# Altium footprint library motionDetectorPCBLib.PcbLib: 7 footprints
Each footprint in its own frame and in the unit in brackets; x right, y up, seen from the top. Pads: shape width x height; smd on the part's side, far side on the other; paste and mask are expansions set on the pad; w line width, h text height; cw(c..) or ccw(c..) is an arc to the next point about the centre after c.
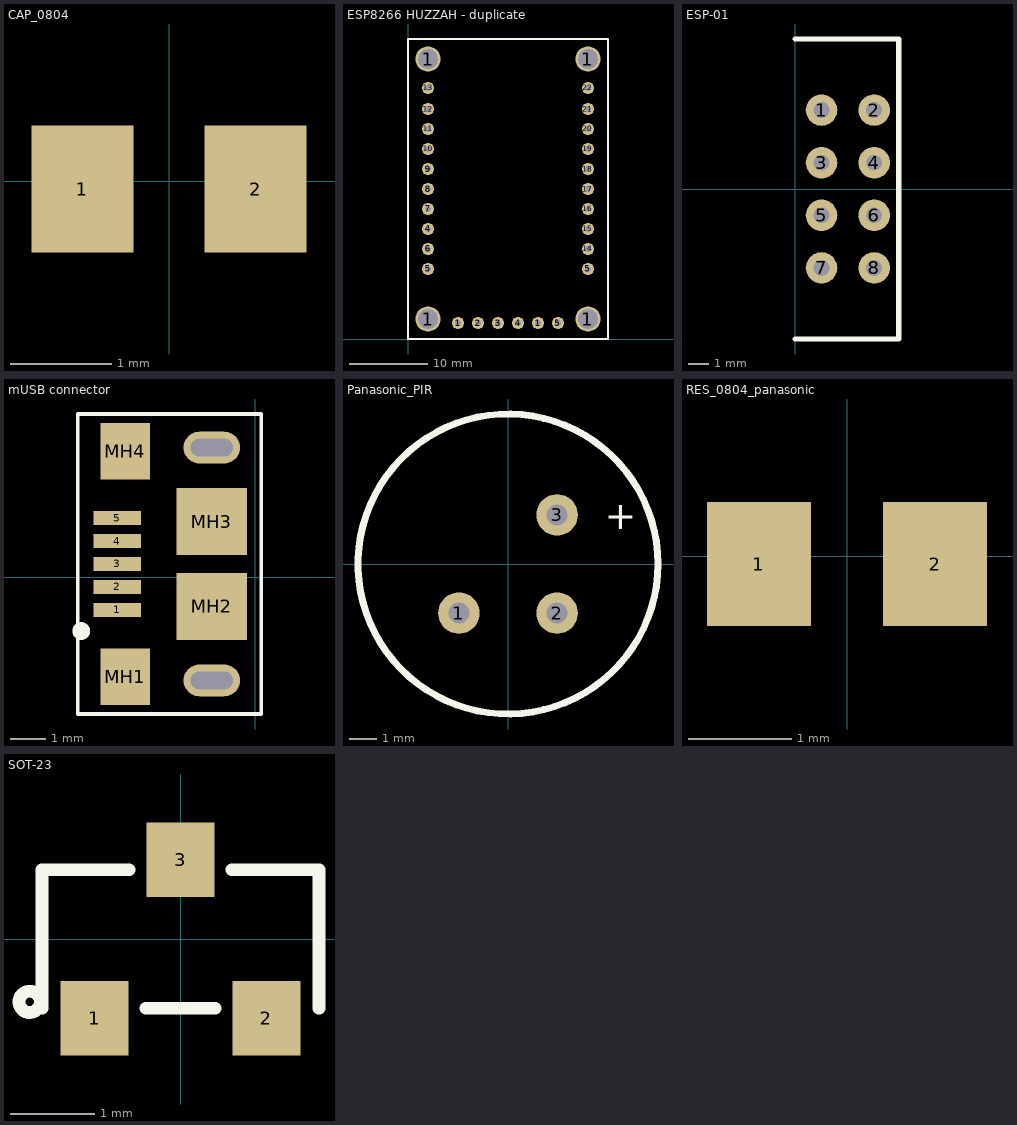
[diagram p0: the footprints below, top view; thin cyan lines are the x and y axes]

## CAP_0804 [mm]
height 1.25
pads (2):
  rect 1.006x1.25 smd: 1(-0.853,-0.075) 2(0.853,-0.075)

## ESP8266 HUZZAH - duplicate [mil]
pads (30):
  round 125.98 hole 98.43: 1(100,100) 1(100,1400) 1(900,100) 1(900,1400)
  round 60 hole 30: 1(250,80) 1(650,80) 2(350,80) 3(450,80) 4(100,550) 4(550,80) 5(100,350) 5(750,80) 5(900,350) 6(100,450) 7(100,650) 8(100,750) 9(100,850) 10(100,950) 11(100,1050) 12(100,1150) 13(100,1255) 14(900,450) 15(900,550) 16(900,650) 17(900,750) 18(900,850) 19(900,950) 20(900,1050) 21(900,1150) 22(900,1255)
Top Overlay:
  lines w10: 0,0 0,1500 1000,1500 1000,0 0,0

## ESP-01 [mil]
pads (8):
  round 60 hole 30: 1(50,150) 2(150,150) 3(50,50) 4(150,50) 5(50,-50) 6(150,-50) 7(50,-150) 8(150,-150)
Top Overlay:
  lines w10: 0,-285 196.85,-285 196.85,285 0,285

## mUSB connector [mm] "Connector; USB Mini-B, Sinking Type, SM; 5 Position; Right Angle"
height 0.35
pads (11):
  rect 1.35x0.4 smd: 1(-3.9,-0.925) 2(-3.9,-0.275) 3(-3.9,0.375) 4(-3.9,1.025) 5(-3.9,1.676)
  rect 1.4x1.6 smd: MH1(-3.675,-2.825) MH4(-3.675,3.575)
  rect 2x1.9 smd: MH2(-1.225,-0.825) MH3(-1.225,1.575)
  oval 1.6x0.9 hole 0.5 slot 1.2 at 0 deg: ""(-1.225,-2.925) ""(-1.225,3.675)
Top Overlay:
  circle w0.25: c-4.925,-1.525 r0.125
  lines w0.1: -5.025,-3.875 0.175,-3.875 0.175,4.625 -5.025,4.625 -5.025,-3.875

## Panasonic_PIR [mil]
pads (3):
  round 60 hole 30: 1(-70.87,-70.87) 2(70.87,-70.87) 3(70.87,70.87)
Top Overlay:
  circle w10: c0,0 r216.54
  text "+" at 140,50 h40

## RES_0804_panasonic [mm]
pads (2):
  rect 1.006x1.2 smd: 1(-0.853,-0.075) 2(0.853,-0.075)

## SOT-23 [mil]
pads (3):
  rect 32x35 smd paste+0: 1(-40.35,-37.2) 2(40.35,-37.2) 3(0,37.2)
Top Overlay:
  circle w6: c-70.87,-29.53 r5
  lines w6: -65.04,-32.56 -65.04,32.56 -24.14,32.56 ; -16.21,-32.56 16.21,-32.56 ; 24.14,32.56 65.04,32.56 65.04,-32.56